# Altium footprint library Narwhal_main_FIX.PcbLib: 27 footprints (part 2 of 2)
Each footprint in its own frame and in the unit in brackets; x right, y up, seen from the top. Pads: shape width x height; smd on the part's side, far side on the other; paste and mask are expansions set on the pad; w line width, h text height; cw(c..) or ccw(c..) is an arc to the next point about the centre after c.
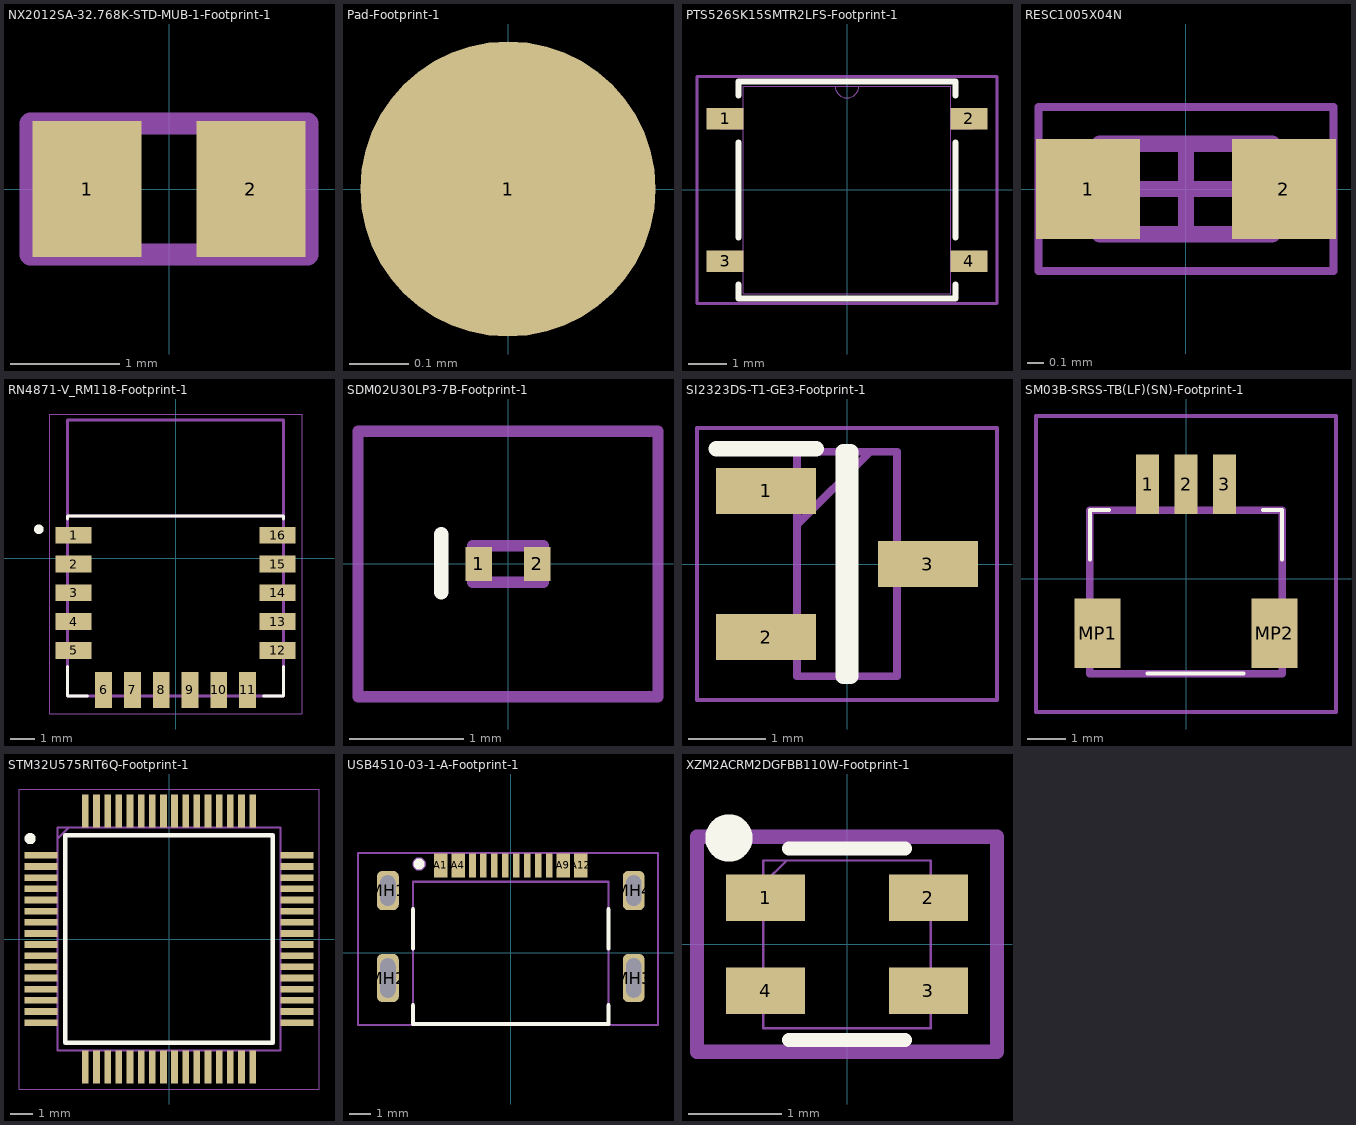
[diagram p1: the footprints below, top view; thin cyan lines are the x and y axes]

## NX2012SA-32.768K-STD-MUB-1-Footprint-1 [mm]
pads (2):
  rect 1x1.25 smd: 1(-0.75,0) 2(0.75,0)
Top Assembly:
  lines w0.1: -1.27,-0.635 1.27,-0.635 1.27,0.635 -1.27,0.635 -1.27,-0.635
Top Courtyard:
  lines w0.2: -1.27,-0.6 1.27,-0.6 1.27,0.6 -1.27,0.6 -1.27,-0.6
Top Designator:
  text ".Designator" at 0.083,-1.25 h0.25
3D body "NX2012SA-32.768K-STD-MUB-1.stp": height 0.55, standoff 0, extent -1.025,-0.6 1.025,0.6

## Pad-Footprint-1 [mm]
pads (1):
  round 0.5 smd paste-0.25: 1(0,0)
Top Designator:
  text ".Designator" at -1.25,-0.083 h0.25

## PTS526SK15SMTR2LFS-Footprint-1 [mil]
pads (4):
  rect 37.5x22 smd paste+0 mask+0: 1(-125.25,73) 2(125.25,73) 3(-125.25,-73) 4(125.25,-73)
Top Overlay:
  lines w6: -111.5,-97.1 -111.5,-111.5 111.5,-111.5 111.5,-97.1 ; -111.5,-48.9 -111.5,48.9 ; -111.5,97.1 -111.5,111.5 111.5,111.5 111.5,97.1 ; 111.5,-48.9 111.5,48.9
Top Assembly:
  lines w0: -12,106.5 ccw(c0,106.5) 12,106.5
  lines w1: -130,-83 -130,-63 -106.5,-63 -106.5,-83 -130,-83 ; -130,63 -130,83 -106.5,83 -106.5,63 -130,63 ; -106.5,-106.5 -106.5,106.5 106.5,106.5 106.5,-106.5 -106.5,-106.5 ; 106.5,-83 106.5,-63 130,-63 130,-83 106.5,-83 ; 106.5,63 106.5,83 130,83 130,63 106.5,63
  text "*" at -104,53.5 h31.5
Top Courtyard:
  lines w3: -154,-116.5 -154,116.5 -116.5,116.5 116.5,116.5 154,116.5 154,-116.5 116.5,-116.5 -116.5,-116.5 -154,-116.5
Top Designator:
  text ".Designator" at -49.2,4.3 h9.84
3D body "PTS526SK15SMTR2_LFS.stp": height 60.06, standoff -0.97, extent -125.98,-100.39 125.98,100.39

## RESC1005X04N [mm]
pads (2):
  rect 0.635x0.61 smd: 1(-0.597,0) 2(0.597,0)
Top Assembly:
  lines w0.1: -0.525,-0.275 -0.525,0.275 0.525,0.275 0.525,-0.275 -0.525,-0.275
Top Courtyard:
  lines w0.05: -0.9,-0.5 -0.9,0.5 0.9,0.5 0.9,-0.5 -0.9,-0.5
  lines w0.1: -0.275,0 0.275,0 ; 0,-0.275 0,0.275
Top Designator:
  text ".Designator" at 1.25,0.083 h0.25
3D body "RESC1005X04N.step": height 0.4, standoff 0, extent -0.525,-0.275 0.525,0.275

## RN4871-V_RM118-Footprint-1 [mm]
pads (16):
  rect 1.5x0.7 smd: 1(-4.25,0.95) 2(-4.25,-0.25) 3(-4.25,-1.45) 4(-4.25,-2.65) 5(-4.25,-3.85) 12(4.25,-3.85) 13(4.25,-2.65) 14(4.25,-1.45) 15(4.25,-0.25) 16(4.25,0.95)
  rect 0.7x1.5 smd: 6(-3,-5.5) 7(-1.8,-5.5) 8(-0.6,-5.5) 9(0.6,-5.5) 10(1.8,-5.5) 11(3,-5.5)
Top Overlay:
  circle w0.2: c-5.7,1.2 r0.1
  lines w0.127: -4.5,-4.52 -4.5,-5.75 -3.67,-5.75 ; -4.5,1.62 -4.5,1.75 4.5,1.75 4.5,1.62 ; 3.67,-5.75 4.5,-5.75 4.5,-4.52
Top Assembly:
  lines w0.127: -4.5,1.75 -4.5,5.75 4.5,5.75 4.5,1.75 ; -4.5,1.75 -4.5,-5.75 4.5,-5.75 4.5,1.75 ; -4.5,1.75 4.5,1.75
  text "PCB EDGE" at -3,2 h0.8
Top Courtyard:
  lines w0.05: -5.25,-6.5 5.25,-6.5 5.25,6 -5.25,6 -5.25,-6.5
Top Designator:
  text ".Designator" at -1.562,-0.333 h0.25
3D body "RN4871-V_RM118.STEP": height 2.1, standoff 0, extent -4.5,-5.75 4.5,5.75
3D body "step_temp.STEP": height 2.1, standoff 0, extent -4.5,-5.75 4.5,5.75

## SDM02U30LP3-7B-Footprint-1 [mm]
pads (2):
  rect 0.23x0.3 smd: 1(-0.254,0) 2(0.254,0)
Top Overlay:
  lines w0.127: -0.583,-0.247 -0.583,0.261
Top Assembly:
  lines w0.1: -0.31,-0.16 -0.31,0.16 0.31,0.16 0.31,-0.16 -0.31,-0.16
Top Courtyard:
  lines w0.1: -1.31,-1.16 1.31,-1.16 1.31,1.16 -1.31,1.16 -1.31,-1.16
Top Designator:
  text ".Designator" at -1.25,-0.083 h0.25
3D body "SDM02U30LP3-7B.stp": height 0.3, standoff 0, extent -0.31,-0.16 0.31,0.16

## SI2323DS-T1-GE3-Footprint-1 [mm]
pads (3):
  rect 1.3x0.6 smd: 1(-1.05,0.95) 2(-1.05,-0.95) 3(1.05,0)
Top Overlay:
  lines w0.2: -1.7,1.5 -0.4,1.5 ; -0.05,-1.46 -0.05,1.46 0.05,1.46 0.05,-1.46 -0.05,-1.46
Top Assembly:
  lines w0.1: -0.65,0.51 0.3,1.46 ; -0.65,-1.46 -0.65,1.46 0.65,1.46 0.65,-1.46 -0.65,-1.46
Top Courtyard:
  lines w0.05: -1.95,-1.77 -1.95,1.77 1.95,1.77 1.95,-1.77 -1.95,-1.77
Top Designator:
  text ".Designator" at -1.25,-0.083 h0.25
3D body "SI2323DS-T1-GE3.stp": height 1.12, standoff 0, extent -1.185,-1.46 1.185,1.46

## SM03B-SRSS-TB(LF)(SN)-Footprint-1 [mm]
pads (5):
  rect 0.6x1.55 smd: 1(-1,2.463) 2(0,2.463) 3(1,2.463)
  rect 1.2x1.8 smd: MP1(-2.3,-1.413) MP2(2.3,-1.413)
Top Overlay:
  lines w0.1: -2.5,0.5 -2.5,1.787 -2,1.787 ; -1,-2.463 1.5,-2.463 ; 2,1.787 2.5,1.787 2.5,0.5
Top Assembly:
  lines w0.2: -2.5,-2.463 -2.5,1.787 2.5,1.787 2.5,-2.463 -2.5,-2.463
Top Courtyard:
  lines w0.1: -3.9,-3.463 3.9,-3.463 3.9,4.237 -3.9,4.237 -3.9,-3.463
Top Designator:
  text ".Designator" at -0.298,-0.742 h0.25
3D body "SM03B-SRSS-TB_LF__SN_.stp": height 2.9, standoff -0.06, extent -2.5,-2.117 2.5,2.833

## STM32U575RIT6Q-Footprint-1 [mm]
pads (64):
  rect 1.475x0.3 smd: 1(-5.738,3.75) 2(-5.738,3.25) 3(-5.738,2.75) 4(-5.738,2.25) 5(-5.738,1.75) 6(-5.738,1.25) 7(-5.738,0.75) 8(-5.738,0.25) 9(-5.738,-0.25) 10(-5.738,-0.75) 11(-5.738,-1.25) 12(-5.738,-1.75) 13(-5.738,-2.25) 14(-5.738,-2.75) 15(-5.738,-3.25) 16(-5.738,-3.75) 33(5.738,-3.75) 34(5.738,-3.25) 35(5.738,-2.75) 36(5.738,-2.25) 37(5.738,-1.75) 38(5.738,-1.25) 39(5.738,-0.75) 40(5.738,-0.25) 41(5.738,0.25) 42(5.738,0.75) 43(5.738,1.25) 44(5.738,1.75) 45(5.738,2.25) 46(5.738,2.75) 47(5.738,3.25) 48(5.738,3.75)
  rect 0.3x1.475 smd: 17(-3.75,-5.738) 18(-3.25,-5.738) 19(-2.75,-5.738) 20(-2.25,-5.738) 21(-1.75,-5.738) 22(-1.25,-5.738) 23(-0.75,-5.738) 24(-0.25,-5.738) 25(0.25,-5.738) 26(0.75,-5.738) 27(1.25,-5.738) 28(1.75,-5.738) 29(2.25,-5.738) 30(2.75,-5.738) 31(3.25,-5.738) 32(3.75,-5.738) 49(3.75,5.738) 50(3.25,5.738) 51(2.75,5.738) 52(2.25,5.738) 53(1.75,5.738) 54(1.25,5.738) 55(0.75,5.738) 56(0.25,5.738) 57(-0.25,5.738) 58(-0.75,5.738) 59(-1.25,5.738) 60(-1.75,5.738) 61(-2.25,5.738) 62(-2.75,5.738) 63(-3.25,5.738) 64(-3.75,5.738)
Top Overlay:
  circle w0.25: c-6.225,4.5 r0.125
  lines w0.2: -4.65,-4.65 4.65,-4.65 4.65,4.65 -4.65,4.65 -4.65,-4.65
Top Assembly:
  lines w0.1: -5,4.5 -4.5,5 ; -5,-5 -5,5 5,5 5,-5 -5,-5
Top Courtyard:
  lines w0.05: -6.725,-6.725 -6.725,6.725 6.725,6.725 6.725,-6.725 -6.725,-6.725
Top Designator:
  text ".Designator" at -1.25,-0.083 h0.25
3D body "STM32U575RIT6Q.stp": height 1.6, standoff 0, extent -6,-6 6,6

## USB4510-03-1-A-Footprint-1 [mm]
pads (16):
  rect 0.6x1.1 smd: A1(-3.2,4) A4(-2.4,4) A9(2.4,4) A12(3.2,4)
  rect 0.3x1.1 smd: A5(-1.25,4) A6(-0.25,4) A7(0.25,4) A8(1.25,4) B5(1.75,4) B6(0.75,4) B7(-0.75,4) B8(-1.75,4)
  rrect50% 1x1.8 hole 0.7 slot 1.4 at 90 deg paste+0.05: MH1(-5.62,2.85) MH4(5.62,2.85)
  rrect50% 1x2.2 hole 0.7 slot 1.8 at 90 deg paste+0.05: MH2(-5.62,-1.15) MH3(5.62,-1.15)
Top Overlay:
  circle w0.254: c-4.191,4.064 r0.127
  lines w0.2: -4.47,-2.4 -4.47,-3.25 4.47,-3.25 4.47,-2.4 ; -4.47,0.2 -4.47,2 ; 4.47,0.2 4.47,2
Top Assembly:
  circle w0.254: c-4.191,4.064 r0.18
  lines w0.1: -4.47,-3.25 -4.47,3.25 4.47,3.25 4.47,-3.25 -4.47,-3.25
Top Courtyard:
  lines w0.1: -6.985,-3.302 -6.985,4.572 6.731,4.572 6.731,-3.302 -6.985,-3.302
Top Designator:
  text ".Designator" at -1.25,0.567 h0.25
3D body "USB4510-03-1-A.stp": height 1.56, standoff -1.63, extent -5.77,-3.12 5.77,4.08

## XZM2ACRM2DGFBB110W-Footprint-1 [mm]
pads (4):
  rect 0.85x0.5 smd paste+0 mask+0: 1(-0.875,0.5) 2(0.875,0.5) 3(0.875,-0.5) 4(-0.875,-0.5)
Top Overlay:
  circle w0.254: c-1.27,1.143 r0.127
  lines w0.152: -0.624,-1.029 0.624,-1.029 ; -0.624,1.029 0.624,1.029
Top Assembly:
  lines w0: -0.902,-0.565 ccw(c-0.902,-0.425) -0.902,-0.285 ; -0.902,0.285 ccw(c-0.902,0.425) -0.902,0.565 ; 0.902,-0.565 cw(c0.902,-0.425) 0.902,-0.285 ; 0.902,0.285 cw(c0.902,0.425) 0.902,0.565
  lines w0.025: -0.902,-0.565 -0.902,-0.902 0.902,-0.902 0.902,-0.565 ; -0.902,-0.285 -0.902,0.285 ; -0.902,0.565 -0.902,0.902 0.902,0.902 0.902,0.565 ; -0.902,0.648 -0.648,0.902 ; 0.902,-0.285 0.902,0.285
Top Courtyard:
  lines w0.152: -1.613,-1.156 -1.156,-1.156 1.156,-1.156 1.613,-1.156 1.613,0.958 1.613,1.156 -1.613,1.156 -1.613,0.958 -1.613,-1.156
Top Designator:
  text ".Designator" at -1.25,-0.001 h0.25
3D body "XZxxxxxx110W.step": height 0.7, standoff 0, extent -0.8,-0.8 0.8,0.8